# Altium schematic symbol library Schlib.SchLib: 40 symbols
Pins are listed as number, name and electrical type; pins without a type are passive.

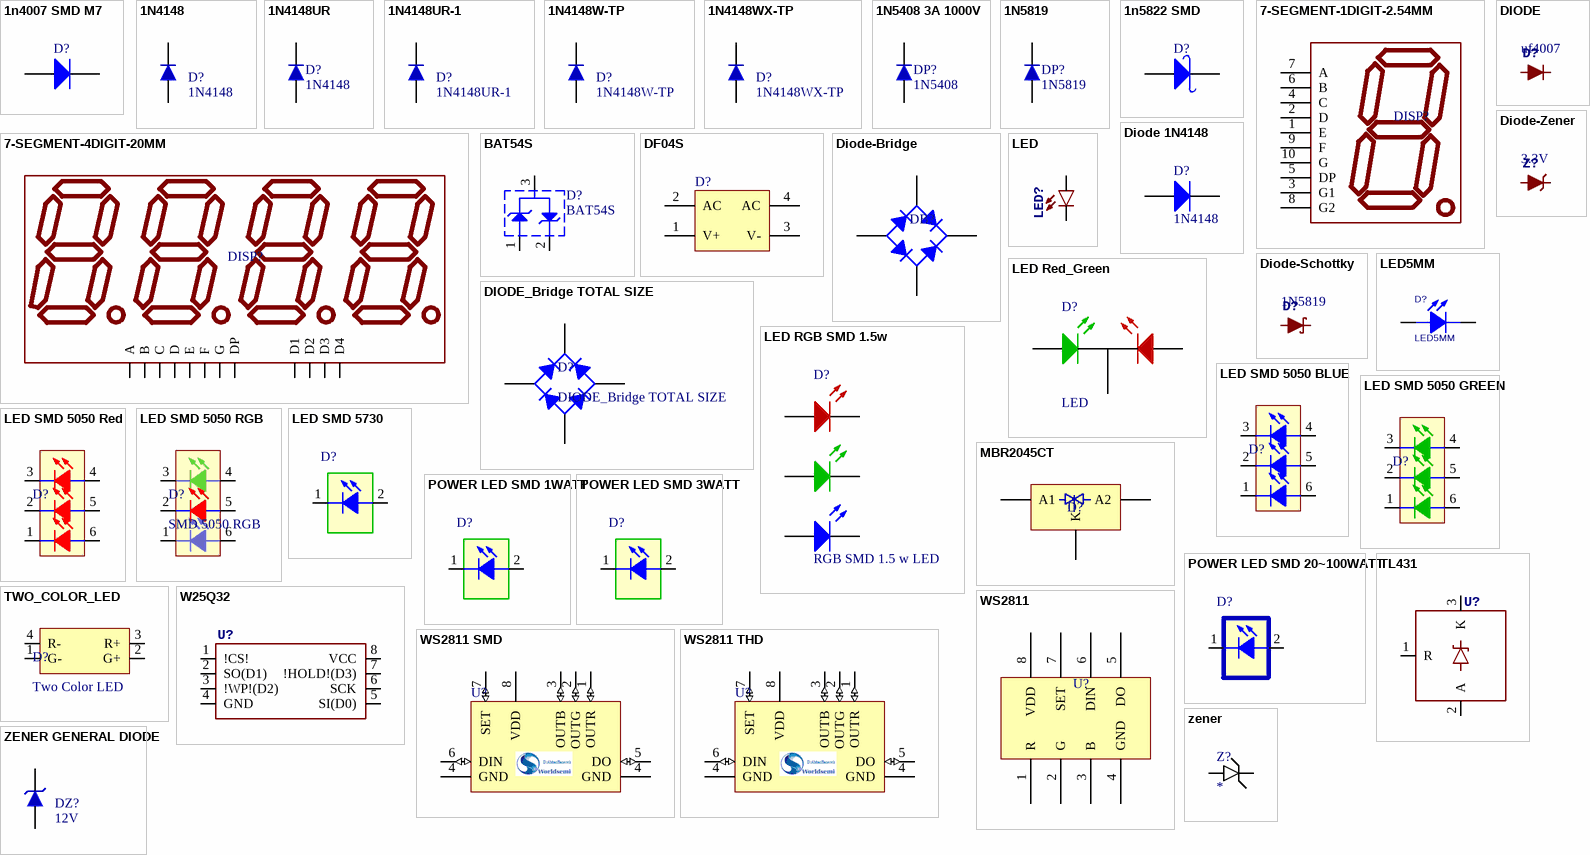
[diagram p0: symbols 1n4007 SMD M7 to ZENER GENERAL DIODE]

## 1n4007 SMD M7
designator D?, comment 1n4007  (value not drawn)
Standard Rectifiers; Part. No: M7; Manufacturer: DC COMPONENTS; Designer: Abbas Basereh; Link: http://www.tme.eu/en/details/m7/smd-universal-diodes/dc-components/; Link: https://www.aliexpress.com/item/Smd-tube-1n4007-m7-SMA/1213719741.html?spm=2114.01010208.3.1.ZyZ7bC&ws_ab_test=searchweb0_0,searchweb201602_4_10065_10068_10084_10083_10080_10082_10081_10060_10061_10062_10056_10055_10054_10059_10099_10078_10079_427_10073_10103_10102_10096_10052_10050_10051,searchweb201603_4&btsid=db2be5ca-e560-400a-b91c-484ab5ee228b; Data: 16-12-2016
footprint DIOM4629X24N (Molded Diode, 2-Leads, Body 4/60x2/90mm, IPC Medium Density)
pins: 1 A, 2 K

## 1N4148
designator D?
DIODE GEN PURP 100V 200MA DO35; Published: 2017-1-12; PackageVersion: 2017-1-12; PackageReference: DO 35; Publisher: Abbas Basereh; PackageDescription: DIODE GEN PURP 100V 200MA DO35; ComponentLink1Description: Manufacturer Link; ComponentLink1URL: http://www.digikey.com/product-detail/en/fairchild-on-semiconductor/1N4148/1N4148FS-ND/458603; ComponentLink2Description: Datasheet; PART.NO: 1N4148
footprint DO 35 (Diode)
pins: 1, 2

## 1N4148UR
designator D?, comment 1N4148
DIODE GEN PURP 75V 200MA DO213AA; PART.NO: 1N4148UR-1; Published: 2017-1-12; PackageVersion: 2017-1-12; PackageReference: DO-213AA&SOD-80; Publisher: Abbas Basereh; PackageDescription: DIODE GEN PURP 75V 200MA DO213AA; ComponentLink1Description: Manufacturer Link; ComponentLink1URL: http://www.digikey.com/product-detail/en/microsemi-corporation/1N4148UR-1/1N4148UR-1-ND/4377991; ComponentLink2Description: Datasheet
footprint SOD80, LL-34 (Diode, MiniMELF)
pins: 1, 2

## 1N4148UR-1
designator D?
DIODE GEN PURP 75V 200MA DO213AA; Published: 2017-1-12; PackageVersion: 2017-1-12; PackageReference: DO-213AA&SOD-80; Publisher: Abbas Basereh; PackageDescription: DIODE GEN PURP 75V 200MA DO213AA; ComponentLink1Description: Manufacturer Link; ComponentLink1URL: http://www.digikey.com/product-detail/en/microsemi-corporation/1N4148UR-1/1N4148UR-1-ND/4377991; ComponentLink2Description: Datasheet; PART.NO: 1N4148UR-1
footprint SOD80, LL-34 (Diode, MiniMELF)
pins: 1, 2

## 1N4148W-TP
designator D?
DIODE GEN PURP 100V 150MA SOD123; Published: 2017-1-12; PackageVersion: 2017-1-12; PackageReference: SOD-123; Publisher: Abbas Basereh; PackageDescription: Diode Standard 100V 150mA Surface Mount SOD-123; ComponentLink1Description: Manufacturer Link; ComponentLink1URL: http://www.digikey.com/product-detail/en/micro-commercial-co/1N4148W-TP/1N4148WTPMSCT-ND/717311; ComponentLink2Description: Datasheet; PART.NO: 1N4148W-TP
footprint SOD123 (SOD-123; 2 Leads; Body 2.7 x 1.6 mm, (LxW))
pins: 1, 2

## 1N4148WX-TP
designator D?
DIODE GEN PURP 75V 150MA SOD323; Published: 2017-1-12; PackageVersion: 2017-1-12; PackageReference: SOD-323; Publisher: Abbas Basereh; PackageDescription: DIODE GEN PURP 75V 150MA SOD323; ComponentLink1Description: Manufacturer Link; ComponentLink1URL: http://www.digikey.com/product-detail/en/micro-commercial-co/1N4148WX-TP/1N4148WXTPMSCT-ND/717312; ComponentLink2Description: Datasheet; PART.NO: 1N4148WX-TP
footprint SOD323 (SOD-323; 2 Leads; Body 1.8 x 1.35 mm, (LxW))
pins: 1, 2

## 1N5408 3A 1000V
designator DP?, comment 1N5408
General Semiconductor. Revision 3A 1000V Silicon Rectifier; Designer: Abbas Basereh; Data: 16-12-2016; Link: *; Part. No: 1N5408
footprint 1N5408 DO-201AD (Designer Abbas Basereh)
footprint DO-201AD - vertical (Designer Abbas Basereh)
pins: 1, 2

## 1N5819
designator DP?
Schottkey Rectifiers; Designer: Abbas Basereh; Data: 16-12-2016; Link: *; Part. No: *
footprint 430X270D (SMA Molded Diode, 2-Leads, Body 4.3x2.7mm)
footprint 1n58XX DO-201AD (Designer Abbas Basereh)
pins: 1, 2

## 1n5822 SMD
designator D?, comment 1n5822  (value not drawn)
Schottky Rectifiers; Part. No: SS34; Manufacturer: ON Semiconductor/Fairchild; Designer: Abbas Basereh; Link: https://www.aliexpress.com/item/Free-shipping-100pcs-1n5822-sma-smd-do-214ac-Schottky-diode-ss34/32337482329.html?spm=2114.01010208.3.1.zLZDsP&ws_ab_test=searchweb0_0,searchweb201602_4_10065_10068_10084_10083_10080_10082_10081_10060_10061_10062_10056_10055_10054_10059_10099_10078_10079_427_10073_10103_10102_10096_10052_10050_10051,searchweb201603_4&btsid=6e50dc92-ac69-45bc-a19e-209af19ce602; Link: http://www.tme.eu/en/details/ss34/smd-schottky-diodes/vishay/ss34-e357t/; Link: http://www.digikey.com/product-detail/en/on-semiconductor-fairchild/SS34/SS34FSCT-ND/2094459; Data: 16-12-2016
footprint DIOM7568X24N (Molded Diode, 2-Leads, Body 7/50x6/80mm, IPC Medium Density)
footprint DO-214AB(SMC) (Molded Diode, 2-Leads, Body 6/85x5/90mm, IPC Medium Density DESIGNER ABBAS BASEREH)
pins: 1 A, 2 K

## 7-SEGMENT-1DIGIT-2.54MM
designator DISP?
PROD_ID: COMP-08615
footprint _7-SEGMENT-1-2.54MM
footprint _7-SEGMENT-23X20
pins: 1 E, 2 D, 3 G1, 4 C, 5 DP, 6 B, 7 A, 8 G2, 9 F, 10 G

## 7-SEGMENT-4DIGIT-20MM
designator DISP?
PROD_ID: COMP-11447
footprint _7-SEGMENT-4DIGIT-20MM
pins: 1 E, 2 D, 3 DP, 4 C, 5 G, 6 D4, 7 B, 8 D3, 9 D2, 10 F, 11 A, 12 D1

## BAT54S
designator D?
Schottky Barrier Double Diode; Company: SJ Libraries; Designer: Eng. Saeid Jorablo; Category: Diodes; ComponentLink1Description: Datasheet; ComponentLink2Description: Reference; ComponentLink2URL: http://altium-library.ir; HelpURL: http://s3.picofile.com/file/7443264187/Coming_Soon_logo.gif; Mounting Technology: Surface Mount; PackageDescription: SOT-23; 3 Leads; Body 3.0 x 2.6 mm, inc. leads (LxW max); PackageReference: SOT-23; Pin Count: 3; Publisher: SJ Unlimited; Status: Unreleased; Value: BAT54S
footprint SOT23_BEC_N (SOT23, 3-Leads, Body 2.9x1.3mm, Pitch 0.95mm, Lead Span 2.4mm, IPC Medium Density)
footprint SOT23_BEC_L (SOT23, 3-Leads, Body 2.9x1.3mm, Pitch 0.95mm, Lead Span 2.4mm, IPC High Density)
footprint SOT23_BEC_M (SOT23, 3-Leads, Body 2.9x1.3mm, Pitch 0.95mm, Lead Span 2.4mm, IPC Low Density)
pins: 1 "Not Connected", 2 "Not Connected", 3 "Not Connected"

## DF04S
designator D?  (value not drawn)
Diode BRIDGE RECTIFIER DF04S 1A; Part. No: DF04S-E3/77; Manufacturer: VISHAY; Manufacturer: FAIRCHILD SEMICONDUCTOR; Designer: Abbas Basereh; Link: http://www.tme.eu/en/details/df04s/smdtht-sing-phase-diode-bridge-rectif/fairchild-semiconductor/; Part. No: DF04S; Link: http://www.tme.eu/en/details/df04s-e3_77/smdtht-sing-phase-diode-bridge-rectif/vishay/; Link: http://www.digikey.com/product-detail/en/on-semiconductor-fairchild/DF04S/DF04SCT-ND/965570; Link: https://www.aliexpress.com/item/Free-shipping-DF04S-patch-legs-bridge-heap/32755062603.html?spm=2114.01010208.3.1.6XWzbc&ws_ab_test=searchweb0_0,searchweb201602_4_10065_10068_10084_10083_10080_10082_10081_10060_10061_10062_10056_10055_10054_10059_10099_10078_10079_427_10073_10103_10102_10096_10052_10050_10051,searchweb201603_4&btsid=2d7d6842-ff97-4af8-87da-adbb517ef3ca; Data: 16-12-2016
footprint DF005S (MINIATURE GLASS PASSIVATED SINGLE-PHASE SURFACE MOUNT  BRIDGE RECTIFIER)
pins: 1 V+, 2 AC, 3 V-, 4 AC

## DIODE
designator D?  PROD_ID: uf4007  (hidden comment: DIODE)
footprint _DO35
footprint _DO41
footprint _DO201
footprint _SOD80C
pins: 1 A, 2 K

## Diode 1N4148
designator D?, comment 1N4148
High Conductance Fast Diode; Published: 8-Jun-2000; LatestRevisionDate: 17-Jul-2002; LatestRevisionNote: Re-released for DXP Platform.; DatasheetVersion: 1997; PackageReference: DO-35; Publisher: Altium Limited; PackageDescription: Diode, Axial; Body 3.8 x 1.9 mm (LxDia. max), Lead Dia. 0.53 mm (max); Code_JEDEC: DO-204-AH; ComponentLink1Description: Manufacturer Link; ComponentLink1URL: http://www.fairchildsemi.com/; ComponentLink2Description: Datasheet; ComponentLink2URL: http://www.fairchildsemi.com/ds/1N%2F1N4148.pdf
footprint DO-35 (Diode, Axial; Body 3.8 x 1.9 mm (LxDia. max), Lead Dia. 0.53 mm (max))
signal-integrity model 1N4148
footprint LL4148 (MELF Diode, 2-Leads, Body 3.5x1.4mm, IPC Medium Density)
pins: 1 A, 2 K

## Diode-Bridge
designator DB?
footprint _DB1
footprint _DB1S
footprint _DB2
footprint _DB15
footprint _DB4
footprint _DB-CIRCLE
footprint _DB1SS
pins: 1 A, 2 C, 3 C, 4 K

## Diode-Schottky
designator D?  value 1N5819
footprint _DO35
footprint _DO41
footprint _DO201
pins: 1 A, 2 K

## Diode-Zener
designator Z?  value 3.3V
footprint _DO35
footprint _DO41
pins: 1 A, 2 K

## DIODE_Bridge TOTAL SIZE
designator D?
Full Wave Diode Bridge; Designer: Abbas Basereh; Design Date: 1395/11/09; ComponentLink1Description: Datasheet; ComponentLink2Description: Reference; Mounting Technology: Surface Mount\Through-Hole; Status: Unreleased
footprint Bridge KBJ PACKAGE (KBJ Bridge Rectifiers DESIGNER :ABBAS BASEREH)
footprint Bridge KBL PACKAGE (KBL Bridge Rectifiers DESIGNER :ABBAS BASEREH)
footprint Bridge KBU PACKAGE (KBU Bridge Rectifiers DESIGNER :ABBAS BASEREH)
footprint Bridge WOB PACKAGE (WOB Bridge Rectifiers DESIGNER :ABBAS BASEREH)
footprint Bridge GBU PACKAGE (GBU Bridge Rectifiers DESIGNER :ABBAS BASEREH)
footprint Bridge KBP PACKAGE (KBP Bridge Rectifiers DESIGNER :ABBAS BASEREH)
pins: 1 +, 2 AC, 3 AC, 4 -

## LED
designator LED?
PROD_ID: DIO-09955
footprint _LED-0603
footprint _LED-0805
footprint _LED-1206
footprint _LED_3MM
footprint _LED_5MM
footprint _LED_10MM
pins: A, K

## LED5MM
designator D?
LED LIGHTING; Designer: Abbas Basereh; Data: 16-12-2016; Link: *; Part.No: *
footprint LED5MM_BLUE (LED 5MM THROUGH HOLE BLUE-Designer Abbas Basereh)
footprint LED5MM_GRN (LED 5MM THROUGH HOLE GREEN-Designer Abbas Basereh)
footprint LED5MM_RED (LED 5MM THROUGH HOLE RED-Designer Abbas Basereh)
footprint LED5MM_YELLOW (LED 5MM THROUGH HOLE YELLOW-Designer Abbas Basereh)
pins: 1 ANODE, 2 CATHODE

## LED Red_Green
designator D?, comment LED
Typical INFRARED GaAs LED; Published: 8-Jun-2000; LatestRevisionDate: 08-Jul-2005; LatestRevisionNote: Mech Layer 1 removed.; Publisher: Altium Limited
footprint My_DUOLED5MM
pins: AG, AR, K

## LED RGB SMD 1.5w
designator D?, comment RGB SMD 1.5 w LED
Enhanced Power RGB LED
footprint MY_RGB_SMD_1.5w
pins: AB A, AG A, AR A, KB K, KG K, KR K

## LED SMD 5050 BLUE
designator D?, comment probably led colors not mach to real please check the device and change the component  (value not drawn)
SMD 5050 BLUE LED; Designer: Abbas Basereh; Design Date: 1395/11/10; ComponentLink1Description: SMD 5050 BLUE; ComponentLink1URL: http://www.yuanlei-led.com; ComponentLink2Description: Reference; PackageDescription: SMD 5050 BLUE; Publisher: Abbas Basereh; Mounting Technology: Surface Mount; Pin Count: 6; Status: Unreleased; Comment_1: SMD 5050 BLUE
footprint 5050 LED package (DESIGNER ABBAS BASEREH)
pins: 1, 2, 3, 4, 5, 6

## LED SMD 5050 GREEN
designator D?, comment probably led colors not mach to real please check the device and change the component  (value not drawn)
SMD 5050 GREEN LED; Designer: Abbas Basereh; Design Date: 1395/11/10; ComponentLink1Description: SMD 5050 GREEN; ComponentLink1URL: http://www.yuanlei-led.com; ComponentLink2Description: Reference; PackageDescription: SMD 5050 GREEN; Publisher: Abbas Basereh; Mounting Technology: Surface Mount; Pin Count: 6; Status: Unreleased; Comment_1: SMD 5050 GREEN
footprint 5050 LED package (DESIGNER ABBAS BASEREH)
pins: 1, 2, 3, 4, 5, 6

## LED SMD 5050 Red
designator D?, comment probably led colors not mach to real please check the device and change the component  (value not drawn)
SMD 5050 Red LED; Designer: Abbas Basereh; Design Date: 1395/11/10; ComponentLink1Description: SMD 5050 Red; ComponentLink1URL: http://www.yuanlei-led.com; ComponentLink2Description: Reference; PackageDescription: SMD 5050 Red; Publisher: Abbas Basereh; Mounting Technology: Surface Mount; Pin Count: 6; Status: Unreleased; Comment_1: SMD 5050 Red
footprint 5050 LED package (DESIGNER ABBAS BASEREH)
pins: 1, 2, 3, 4, 5, 6

## LED SMD 5050 RGB
designator D?, comment Comment_1: SMD 5050 RGB  (hidden comment: probably led colors not mach to real please check the device and change the component)
SMD 5050 RGB LED; Designer: Abbas Basereh; Design Date: 1395/11/10; ComponentLink1Description: SMD 5050 RGB; ComponentLink1URL: http://www.yuanlei-led.com; ComponentLink2Description: Reference; PackageDescription: SMD 5050 RGB; Publisher: Abbas Basereh; Mounting Technology: Surface Mount; HelpURL: probably color of the leds not mached real please check and change; Pin Count: 6; Status: Unreleased
footprint 5050 LED package (DESIGNER ABBAS BASEREH)
pins: 1, 2, 3, 4, 5, 6

## LED SMD 5730
designator D?, comment 0.5WATT WITHE/WARM  (value not drawn)
LED SMD 0.5WATT; Designer: Abbas Basereh; Comment_1: POWER LED SMD 0.5W; Design Date: 1395/11/14; ComponentLink1Description: POWER LED SMD LIGHTING; ComponentLink1URL: http://www.epistar.com.tw/_english/10_technology/00_detail.php?TID=3; ComponentLink2Description: Reference; PackageDescription: SMD; Publisher: Abbas Basereh; Mounting Technology: Surface Mount; Pin Count: 2; Status: Unreleased; VALUE: 0.5WATT WITHE/WARM
footprint LED-5730 (LED; 2 Leads)
pins: 1, 2

## MBR2045CT
designator D?, comment MBR2045  (value not drawn)
Power Schottky; Manufacturer: VISHAY; Part. No: MBR2045CT-E3/45; Designer: Abbas Basereh; Link: https://www.aliexpress.com/item/100PCS-MBR2045CT-MBR2045-MBR2045C-TO220/32576607386.html?spm=2114.01010208.3.1.vWJGYC&ws_ab_test=searchweb0_0,searchweb201602_4_10065_10068_10084_10083_10080_10082_10081_10060_10061_10062_10056_10055_10054_10059_10099_10078_10079_427_10073_10103_10102_10096_10052_10050_10051,searchweb201603_4&btsid=59d3c580-949c-4e8a-9059-0fcae782ffc8; Link: http://www.tme.eu/en/details/mbr2045ct-e3_45/tht-universal-diodes/vishay/; Link: http://www.digikey.com/product-detail/en/diodes-incorporated/MBR2045CTF-G1/MBR2045CTF-G1DI-ND/5453096
footprint TO-220 AB (Epoxy meets UL94, V0)
footprint TO-220 AB S (Epoxy meets UL94, V0)
footprint TO-220 AB WITH HEAT SINK (Epoxy meets UL94, V0)
footprint TO-220 AB WITH HEAT SINK ASM
footprint TO-220 AB with heatsink ya25 (Epoxy meets UL94, V0-Design:Abbas Basereh)
pins: 1 A1 (power), 2 K (power), 3 A2 (power)

## POWER LED SMD 1WATT
designator D?, comment 1WATT WITHE/WARM  (value not drawn)
POWER LED SMD 1WATT; Designer: Abbas Basereh; Design Date: 1395/11/14; ComponentLink1Description: POWER LED SMD LIGHTING; ComponentLink1URL: http://www.epistar.com.tw/_english/10_technology/00_detail.php?TID=3; ComponentLink2Description: Reference; PackageDescription: SMD; Publisher: Abbas Basereh; Mounting Technology: Surface Mount; Pin Count: 2; Status: Unreleased; Comment_1: POWER LED SMD 1W; VALUE: 1WATT WITHE/WARM
footprint POWER LED 1WATT (DESIGNER : ABBAS BASEREH)
footprint POWER LED 1WATT-WITH LENS (DESIGNER : ABBAS BASEREH)
pins: 1, 2

## POWER LED SMD 3WATT
designator D?, comment 3WATT WITHE/WARM  (value not drawn)
POWER LED SMD 3WATT; Designer: Abbas Basereh; Design Date: 1395/11/14; ComponentLink1Description: POWER LED SMD LIGHTING; ComponentLink1URL: http://www.epistar.com.tw/_english/10_technology/00_detail.php?TID=3; ComponentLink2Description: Reference; PackageDescription: SMD; Publisher: Abbas Basereh; Mounting Technology: Surface Mount; Pin Count: 2; Status: Unreleased; Comment_1: POWER LED SMD 3W; VALUE: 3WATT WITHE/WARM
footprint POWER LED 3WATT (DESIGNER : ABBAS BASEREH)
footprint POWER LED 3WATT-WITH LENS (DESIGNER : ABBAS BASEREH)
pins: 1, 2

## POWER LED SMD 20~100WATT
designator D?, comment 20~100WATT WITHE/WARM  (value not drawn)
POWER LED SMD; Designer: Abbas Basereh; Design Date: 1395/11/14; ComponentLink1Description: POWER LED SMD LIGHTING; ComponentLink1URL: http://www.epistar.com.tw/_english/10_technology/00_detail.php?TID=3; ComponentLink2Description: Reference; PackageDescription: THD/SMD; Publisher: Abbas Basereh; Mounting Technology: Surface Mount; Pin Count: 2; Status: Unreleased; Comment_1: POWER LED SMD; VALUE: 20~100WATT WITHE/WARM
footprint POWER LED 20~100W (DESIGNER ABBAS BASEREH)
pins: 1, 2

## TL431
designator U?
PROD_ID: IC-10947; SF_ID: COM-11078
footprint _TO92
pins: 1 R, 2 A, 3 K

## TWO_COLOR_LED
designator D?, comment Two Color LED
footprint TWO_COLOR_LED
pins: 1 G-, 2 G+, 3 R+, 4 R-

## W25Q32
designator U?  (value not drawn)
PROD_ID: IC-13229
footprint _SOIC8
pins: 1 !CS!, 2 SO(D1), 3 !WP!(D2), 4 GND, 5 SI(D0), 6 SCK, 7 !HOLD!(D3), 8 VCC

## WS2811
designator U?
footprint _SO08
pins: 1 R, 2 G, 3 B, 4 GND, 5 DO, 6 DIN, 7 SET, 8 VDD

## WS2811 SMD
designator U?
LED Driver IC 3 Output Linear 18.5mA Module 10PK; ComponentAvailability: Not recommended for new design.; Published: 2017-1-30; DatasheetVersion: 30-1-2017; PackageVersion: 30-1-2017; PackageReference: 8S2; Publisher: Abbas Basereh; PackageDescription: SOP-8; Supplier 1: Digi-Key; Supplier Part Number 1: WS2811; Supplier 2: Farnell; Supplier Part Number 2: 1378; Supplier 3: Mouser; Supplier Part Number 3: 1528-1537-ND; ComponentLink1Description: LED Driver IC 3 Output Linear 18.5mA Module 10PK; ComponentLink1URL: http://www.world-semi.com; ComponentLink2Description: WS2811; ComponentLink3Description: WS2811; ComponentLink4Description: http://www.world-semi.com
footprint 8S2_N (SOP, 8-Leads, Body 5.3x5.3mm, Pitch 1.27mm, IPC Medium Density)
footprint 8S2_L (SOP, 8-Leads, Body 5.3x5.3mm, Pitch 1.27mm, IPC High Density)
footprint 8S2_M (SOP, 8-Leads, Body 5.3x5.3mm, Pitch 1.27mm, IPC Low Density)
pins: 1 OUTR (io), 2 OUTG (io), 3 OUTB (io), 4 GND (power), 4 GND (power), 5 DO (io), 6 DIN (io), 7 SET (io), 8 VDD (power)
text: D:AbbasBasereh

## WS2811 THD
designator U?
LED Driver IC 3 Output Linear 18.5mA Module 10PK; ComponentAvailability: Not recommended for new design.; Published: 2017-1-30; DatasheetVersion: 30-1-2017; PackageVersion: 30-1-2017; PackageReference: 8P3; Publisher: Abbas Basereh; PackageDescription: DIP-8; Supplier 1: Digi-Key; Supplier Part Number 1: WS2811; Supplier 2: Farnell; Supplier 3: Mouser; ComponentLink1Description: LED Driver IC 3 Output Linear 18.5mA Module 10PK; ComponentLink1URL: http://www.world-semi.com; ComponentLink2Description: WS2811; ComponentLink3Description: WS2811; ComponentLink4Description: http://www.world-semi.com
footprint 8P3 (DIP, 8-Leads, Row Spacing 7.62mm, Pitch 2.54mm, Body 9.59x6.61mm)
pins: 1 OUTR (io), 2 OUTG (io), 3 OUTB (io), 4 GND (power), 4 GND (power), 5 DO (io), 6 DIN (io), 7 SET (io), 8 VDD (power)
text: D:AbbasBasereh

## zener
designator Z?
footprint zener
pins: 1, 2

## ZENER GENERAL DIODE
designator DZ?, comment 12V
DIODE ZENER GENERAL; Published: 2017-1-12; PackageVersion: 2017-1-12; PackageReference: DO 35; Publisher: Abbas Basereh; PackageDescription: DIODE GEN ZENER; ComponentLink1Description: Manufacturer Link; ComponentLink2Description: Datasheet; VALUE: 12V
footprint DO 35 (Diode)
footprint SOD323 (SOD-323; 2 Leads; Body 1.8 x 1.35 mm, (LxW))
footprint SOD80, LL-34 (Diode, MiniMELF)
footprint SOD123 (SOD-123; 2 Leads; Body 2.7 x 1.6 mm, (LxW))
pins: 1, 2